# EAGLE library part П576А (library VFD_P576A)
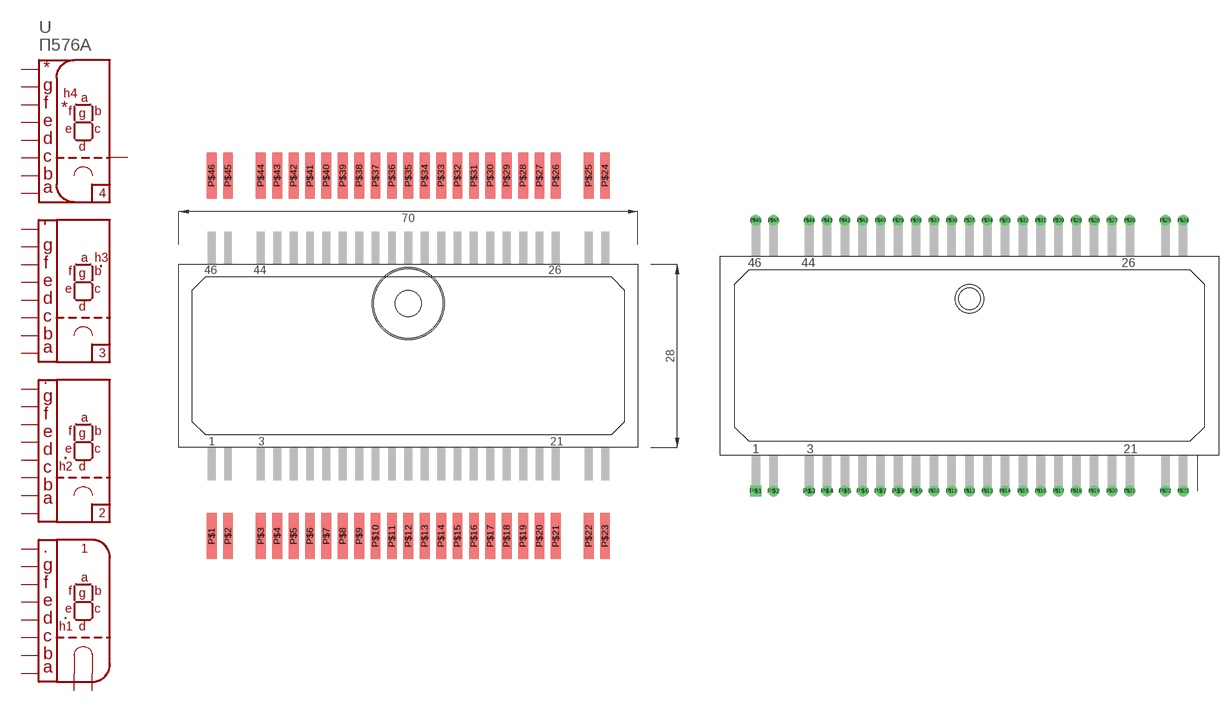
[diagram p0: symbol with the pads of П576А_S; footprints П576А_S, П576А_D]

Designator prefix -

## П576А''S  [П576А_S]
P$1  K1
P$2  K1
P$3  S
P$4  E4
P$5  G4
P$6  D4
P$7  C4
P$8  E3
P$9  G3
P$10  D3
P$11  C3
P$12  S
P$13  H2
P$14  E2
P$15  G2
P$16  D2
P$17  C2
P$18  H1
P$19  E1
P$20  D1
P$21  S
P$22  K2
P$23  K2
P$24  K2
P$25  K2
P$26  S
P$27  C1
P$28  G1
P$29  B1
P$30  A1
P$31  F1
P$32  B2
P$33  A2
P$34  F2
P$35  S
P$36  H3
P$37  B3
P$38  A3
P$39  F3
P$40  B4
P$41  A4
P$42  F4
P$43  H4
P$44  S
P$45  K1
P$46  K1

## П576А''D  [П576А_D]
Pads as for П576А_S

## Footprint П576А_S (pad centres in mm)
smd 1.5 x 7: P$1 -30,-27.5; P$2 -27.5,-27.5; P$3 -22.5,-27.5; P$4 -20,-27.5; P$5 -17.5,-27.5; P$6 -15,-27.5; P$7 -12.5,-27.5; P$8 -10,-27.5; P$9 -7.5,-27.5; P$10 -5,-27.5; P$11 -2.5,-27.5; P$12 0,-27.5; P$13 2.5,-27.5; P$14 5,-27.5; P$15 7.5,-27.5; P$16 10,-27.5; P$17 12.5,-27.5; P$18 15,-27.5; P$19 17.5,-27.5; P$20 20,-27.5; P$21 22.5,-27.5; P$22 27.5,-27.5; P$23 30,-27.5; P$24 30,27.5; P$25 27.5,27.5; P$26 22.5,27.5; P$27 20,27.5; P$28 17.5,27.5; P$29 15,27.5; P$30 12.5,27.5; P$31 10,27.5; P$32 7.5,27.5; P$33 5,27.5; P$34 2.5,27.5; P$35 0,27.5; P$36 -2.5,27.5; P$37 -5,27.5; P$38 -7.5,27.5; P$39 -10,27.5; P$40 -12.5,27.5; P$41 -15,27.5; P$42 -17.5,27.5; P$43 -20,27.5; P$44 -22.5,27.5; P$45 -27.5,27.5; P$46 -30,27.5
hole 10.5 at 0,8

## Footprint П576А_D (pad centres in mm)
drill 1 square: P$1 -30,-19
drill 1: P$2 -27.5,-19; P$3 -22.5,-19; P$4 -20,-19; P$5 -17.5,-19; P$6 -15,-19; P$7 -12.5,-19; P$8 -10,-19; P$9 -7.5,-19; P$10 -5,-19; P$11 -2.5,-19; P$12 0,-19; P$13 2.5,-19; P$14 5,-19; P$15 7.5,-19; P$16 10,-19; P$17 12.5,-19; P$18 15,-19; P$19 17.5,-19; P$20 20,-19; P$21 22.5,-19; P$22 27.5,-19; P$23 30,-19; P$24 30,19; P$25 27.5,19; P$26 22.5,19; P$27 20,19; P$28 17.5,19; P$29 15,19; P$30 12.5,19; P$31 10,19; P$32 7.5,19; P$33 5,19; P$34 2.5,19; P$35 0,19; P$36 -2.5,19; P$37 -5,19; P$38 -7.5,19; P$39 -10,19; P$40 -12.5,19; P$41 -15,19; P$42 -17.5,19; P$43 -20,19; P$44 -22.5,19; P$45 -27.5,19; P$46 -30,19
hole 4 at 0,8